# EAGLE library part CR22A-44D-2.54DSA(70) (library con-hirose-sph)
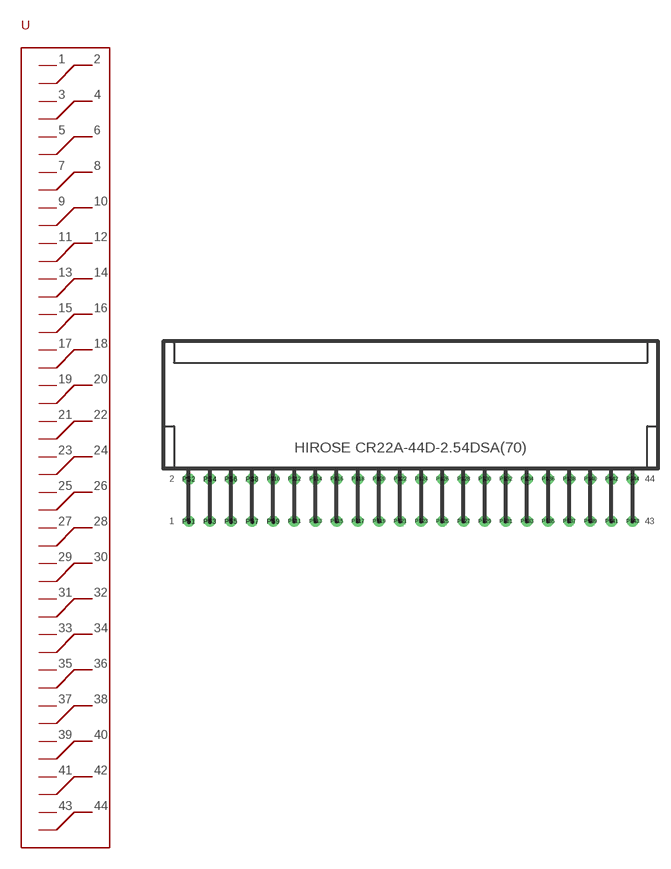
[diagram p65: symbol with the pads of CR22A-44D-2.54DSA(70); footprint CR22A-44D-2.54DSA(70)]

Designator prefix -

## CR22A-44D-2.54DSA(70)  [CR22A-44D-2.54DSA(70)]
P$1  X1
P$2  X2
P$3  X3
P$4  X4
P$5  X5
P$6  X6
P$7  X7
P$8  X8
P$9  X9
P$10  X10
P$11  X11
P$12  X12
P$13  X13
P$14  X14
P$15  X15
P$16  X16
P$17  X17
P$18  X18
P$19  X19
P$20  X20
P$21  X21
P$22  X22
P$23  X23
P$24  X24
P$25  X25
P$26  X26
P$27  X27
P$28  X28
P$29  X29
P$30  X30
P$31  X31
P$32  X32
P$33  X33
P$34  X34
P$35  X35
P$36  X36
P$37  X37
P$38  X38
P$39  X39
P$40  X40
P$41  X41
P$42  X42
P$43  X43
P$44  X44

## Footprint CR22A-44D-2.54DSA(70) (pad centres in mm)
drill 0.85: P$1 -25.4,-11.43; P$2 -25.4,-6.35; P$3 -22.86,-11.43; P$4 -22.86,-6.35; P$5 -20.32,-11.43; P$6 -20.32,-6.35; P$7 -17.78,-11.43; P$8 -17.78,-6.35; P$9 -15.24,-11.43; P$10 -15.24,-6.35; P$11 -12.7,-11.43; P$12 -12.7,-6.35; P$13 -10.16,-11.43; P$14 -10.16,-6.35; P$15 -7.62,-11.43; P$16 -7.62,-6.35; P$17 -5.08,-11.43; P$18 -5.08,-6.35; P$19 -2.54,-11.43; P$20 -2.54,-6.35; P$21 0,-11.43; P$22 0,-6.35; P$23 2.54,-11.43; P$24 2.54,-6.35; P$25 5.08,-11.43; P$26 5.08,-6.35; P$27 7.62,-11.43; P$28 7.62,-6.35; P$29 10.16,-11.43; P$30 10.16,-6.35; P$31 12.7,-11.43; P$32 12.7,-6.35; P$33 15.24,-11.43; P$34 15.24,-6.35; P$35 17.78,-11.43; P$36 17.78,-6.35; P$37 20.32,-11.43; P$38 20.32,-6.35; P$39 22.86,-11.43; P$40 22.86,-6.35; P$41 25.4,-11.43; P$42 25.4,-6.35; P$43 27.94,-11.43; P$44 27.94,-6.35